# EAGLE library part S7B-EH (library con-JST EH)
JST EH series header 2.50mm pitch disconnectable crimp style connectors, horizontal (side entry type), 7 pins
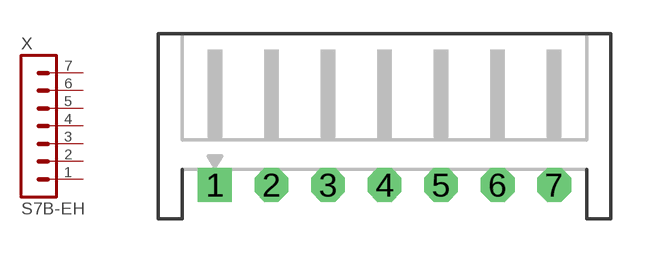
[diagram p11: symbol with the pads of S7B-EH; footprint S7B-EH]

Designator prefix X

## S7B-EH  [S7B-EH]
1  1  pas
2  2  pas
3  3  pas
4  4  pas
5  5  pas
6  6  pas
7  7  pas

## Footprint S7B-EH (pad centres in mm)
JST EH series header 2.50mm pitch disconnectable crimp style connectors, horizontal (side entry type), 7 pins
drill 0.9 pad 1.5 square: 1 -7.5,0
drill 0.9 pad 1.5 octagon: 2 -5,0; 3 -2.5,0; 4 0,0; 5 2.5,0; 6 5,0; 7 7.5,0